# Altium schematic symbol library ONSemi.SchLib: 1 symbol
Pins are listed as number, name and electrical type; pins without a type are passive.

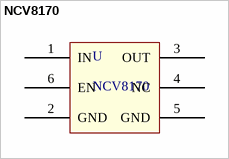
[diagram p0: symbol NCV8170]

## NCV8170
designator U
pins: 1 IN, 2 GND, 3 OUT, 4 NC, 5 GND, 6 EN